# Altium footprint library powerAmp.PcbLib: 1 footprints
Each footprint in its own frame and in the unit in brackets; x right, y up, seen from the top. Pads: shape width x height; smd on the part's side, far side on the other; paste and mask are expansions set on the pad; w line width, h text height; cw(c..) or ccw(c..) is an arc to the next point about the centre after c.
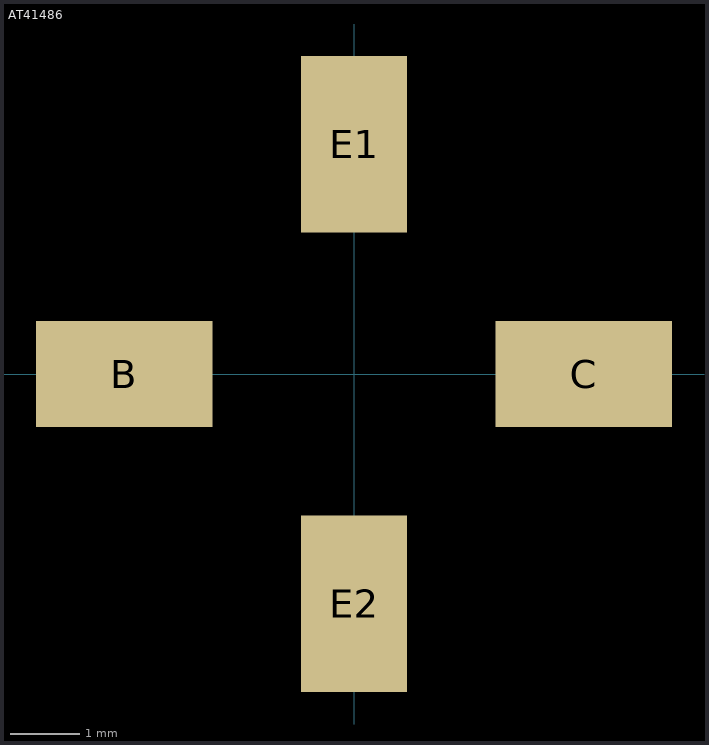
[diagram p0: the footprint, top view; thin cyan lines are the x and y axes]

## AT41486 [mil]
pads (4):
  rect 100x60 smd: B(-130,0) C(130,0)
  rect 60x100 smd: E1(0,130) E2(0,-130)